# Altium schematic symbol library SCH - POWER - LINEAR VREG - TI LMS8117AMP-1.8.SchLib: 1 symbol
Pins are listed as number, name and electrical type; pins without a type are passive.

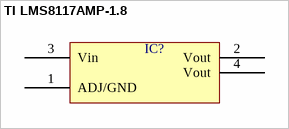
[diagram p0: symbol TI LMS8117AMP-1.8]

## TI LMS8117AMP-1.8
designator IC?  (value not drawn)
pins: 1 ADJ/GND, 2 Vout, 3 Vin, 4 Vout